# EAGLE library part SOCKET_PGA177 (library akita)
PGA177 15x15/2.54mm Kyocera QS-21115
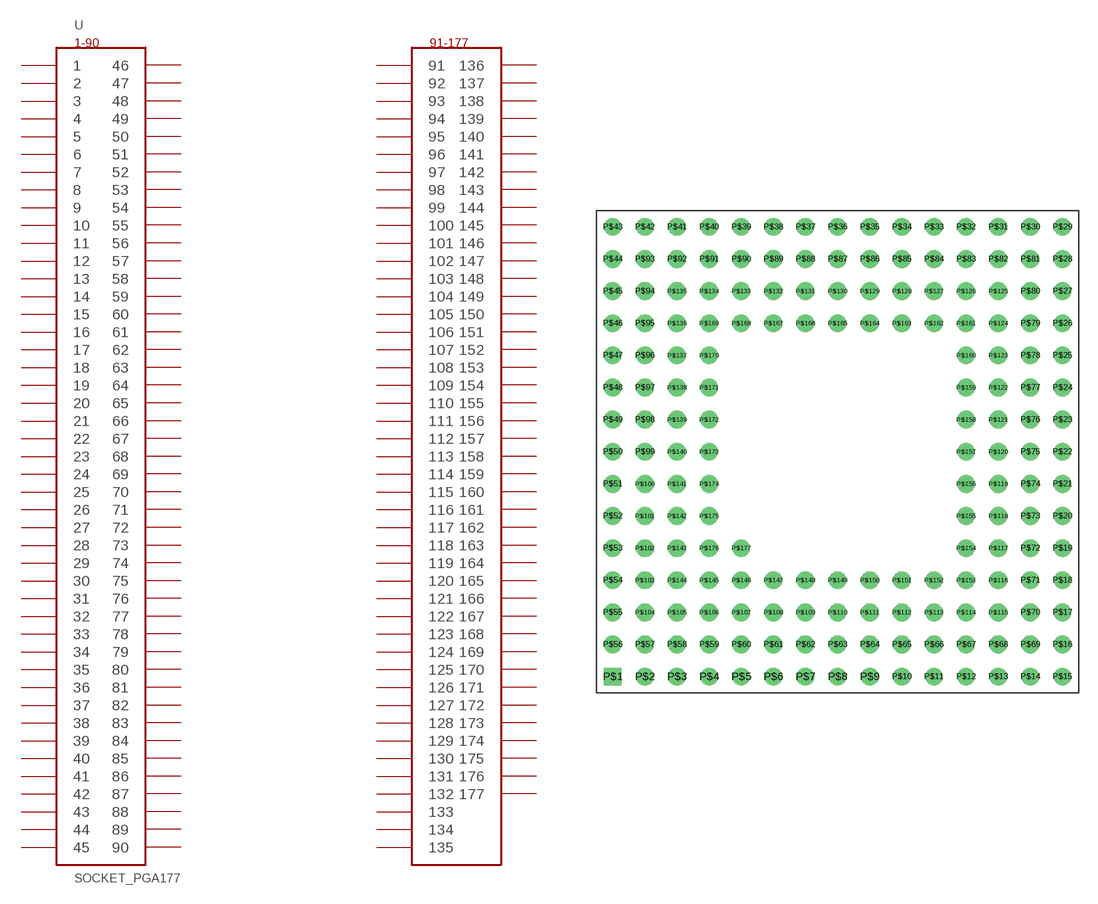
[diagram p141: symbol with the pads of SOCKET_PGA177; footprint SOCKET_PGA177]

Designator prefix U

## SOCKET_PGA177  [SOCKET_PGA177]
P$1  1
P$2  2
P$3  3
P$4  4
P$5  5
P$6  6
P$7  7
P$8  8
P$9  9
P$10  10
P$11  11
P$12  12
P$13  13
P$14  14
P$15  15
P$16  16
P$17  17
P$18  18
P$19  19
P$20  20
P$21  21
P$22  22
P$23  23
P$24  24
P$25  25
P$26  26
P$27  27
P$28  28
P$29  29
P$30  30
P$31  31
P$32  32
P$33  33
P$34  34
P$35  35
P$36  36
P$37  37
P$38  38
P$39  39
P$40  40
P$41  41
P$42  42
P$43  43
P$44  44
P$45  45
P$46  46
P$47  47
P$48  48
P$49  49
P$50  50
P$51  51
P$52  52
P$53  53
P$54  54
P$55  55
P$56  56
P$57  57
P$58  58
P$59  59
P$60  60
P$61  61
P$62  62
P$63  63
P$64  64
P$65  65
P$66  66
P$67  67
P$68  68
P$69  69
P$70  70
P$71  71
P$72  72
P$73  73
P$74  74
P$75  75
P$76  76
P$77  77
P$78  78
P$79  79
P$80  80
P$81  81
P$82  82
P$83  83
P$84  84
P$85  85
P$86  86
P$87  87
P$88  88
P$89  89
P$90  90
P$91  91
P$92  92
P$93  93
P$94  94
P$95  95
P$96  96
P$97  97
P$98  98
P$99  99
P$100  100
P$101  101
P$102  102
P$103  103
P$104  104
P$105  105
P$106  106
P$107  107
P$108  108
P$109  109
P$110  110
P$111  111
P$112  112
P$113  113
P$114  114
P$115  115
P$116  116
P$117  117
P$118  118
P$119  119
P$120  120
P$121  121
P$122  122
P$123  123
P$124  124
P$125  125
P$126  126
P$127  127
P$128  128
P$129  129
P$130  130
P$131  131
P$132  132
P$133  133
P$134  134
P$135  135
P$136  136
P$137  137
P$138  138
P$139  139
P$140  140
P$141  141
P$142  142
P$143  143
P$144  144
P$145  145
P$146  146
P$147  147
P$148  148
P$149  149
P$150  150
P$151  151
P$152  152
P$153  153
P$154  154
P$155  155
P$156  156
P$157  157
P$158  158
P$159  159
P$160  160
P$161  161
P$162  162
P$163  163
P$164  164
P$165  165
P$166  166
P$167  167
P$168  168
P$169  169
P$170  170
P$171  171
P$172  172
P$173  173
P$174  174
P$175  175
P$176  176
P$177  177

## Footprint SOCKET_PGA177 (pad centres in mm)
PGA177, 15x15/2.54mm
drill 0.9 square: P$1 -17.78,-17.78
drill 0.9: P$2 -15.24,-17.78; P$3 -12.7,-17.78; P$4 -10.16,-17.78; P$5 -7.62,-17.78; P$6 -5.08,-17.78; P$7 -2.54,-17.78; P$8 0,-17.78; P$9 2.54,-17.78; P$10 5.08,-17.78; P$11 7.62,-17.78; P$12 10.16,-17.78; P$13 12.7,-17.78; P$14 15.24,-17.78; P$15 17.78,-17.78; P$16 17.78,-15.24; P$17 17.78,-12.7; P$18 17.78,-10.16; P$19 17.78,-7.62; P$20 17.78,-5.08; P$21 17.78,-2.54; P$22 17.78,0; P$23 17.78,2.54; P$24 17.78,5.08; P$25 17.78,7.62; P$26 17.78,10.16; P$27 17.78,12.7; P$28 17.78,15.24; P$29 17.78,17.78; P$30 15.24,17.78; P$31 12.7,17.78; P$32 10.16,17.78; P$33 7.62,17.78; P$34 5.08,17.78; P$35 2.54,17.78; P$36 0,17.78; P$37 -2.54,17.78; P$38 -5.08,17.78; P$39 -7.62,17.78; P$40 -10.16,17.78; P$41 -12.7,17.78; P$42 -15.24,17.78; P$43 -17.78,17.78; P$44 -17.78,15.24; P$45 -17.78,12.7; P$46 -17.78,10.16; P$47 -17.78,7.62; P$48 -17.78,5.08; P$49 -17.78,2.54; P$50 -17.78,0; P$51 -17.78,-2.54; P$52 -17.78,-5.08; P$53 -17.78,-7.62; P$54 -17.78,-10.16; P$55 -17.78,-12.7; P$56 -17.78,-15.24; P$57 -15.24,-15.24; P$58 -12.7,-15.24; P$59 -10.16,-15.24; P$60 -7.62,-15.24; P$61 -5.08,-15.24; P$62 -2.54,-15.24; P$63 0,-15.24; P$64 2.54,-15.24; P$65 5.08,-15.24; P$66 7.62,-15.24; P$67 10.16,-15.24; P$68 12.7,-15.24; P$69 15.24,-15.24; P$70 15.24,-12.7; P$71 15.24,-10.16; P$72 15.24,-7.62; P$73 15.24,-5.08; P$74 15.24,-2.54; P$75 15.24,0; P$76 15.24,2.54; P$77 15.24,5.08; P$78 15.24,7.62; P$79 15.24,10.16; P$80 15.24,12.7; P$81 15.24,15.24; P$82 12.7,15.24; P$83 10.16,15.24; P$84 7.62,15.24; P$85 5.08,15.24; P$86 2.54,15.24; P$87 0,15.24; P$88 -2.54,15.24; P$89 -5.08,15.24; P$90 -7.62,15.24; P$91 -10.16,15.24; P$92 -12.7,15.24; P$93 -15.24,15.24; P$94 -15.24,12.7; P$95 -15.24,10.16; P$96 -15.24,7.62; P$97 -15.24,5.08; P$98 -15.24,2.54; P$99 -15.24,0; P$100 -15.24,-2.54; P$101 -15.24,-5.08; P$102 -15.24,-7.62; P$103 -15.24,-10.16; P$104 -15.24,-12.7; P$105 -12.7,-12.7; P$106 -10.16,-12.7; P$107 -7.62,-12.7; P$108 -5.08,-12.7; P$109 -2.54,-12.7; P$110 0,-12.7; P$111 2.54,-12.7; P$112 5.08,-12.7; P$113 7.62,-12.7; P$114 10.16,-12.7; P$115 12.7,-12.7; P$116 12.7,-10.16; P$117 12.7,-7.62; P$118 12.7,-5.08; P$119 12.7,-2.54; P$120 12.7,0; P$121 12.7,2.54; P$122 12.7,5.08; P$123 12.7,7.62; P$124 12.7,10.16; P$125 12.7,12.7; P$126 10.16,12.7; P$127 7.62,12.7; P$128 5.08,12.7; P$129 2.54,12.7; P$130 0,12.7; P$131 -2.54,12.7; P$132 -5.08,12.7; P$133 -7.62,12.7; P$134 -10.16,12.7; P$135 -12.7,12.7; P$136 -12.7,10.16; P$137 -12.7,7.62; P$138 -12.7,5.08; P$139 -12.7,2.54; P$140 -12.7,0; P$141 -12.7,-2.54; P$142 -12.7,-5.08; P$143 -12.7,-7.62; P$144 -12.7,-10.16; P$145 -10.16,-10.16; P$146 -7.62,-10.16; P$147 -5.08,-10.16; P$148 -2.54,-10.16; P$149 0,-10.16; P$150 2.54,-10.16; P$151 5.08,-10.16; P$152 7.62,-10.16; P$153 10.16,-10.16; P$154 10.16,-7.62; P$155 10.16,-5.08; P$156 10.16,-2.54; P$157 10.16,0; P$158 10.16,2.54; P$159 10.16,5.08; P$160 10.16,7.62; P$161 10.16,10.16; P$162 7.62,10.16; P$163 5.08,10.16; P$164 2.54,10.16; P$165 0,10.16; P$166 -2.54,10.16; P$167 -5.08,10.16; P$168 -7.62,10.16; P$169 -10.16,10.16; P$170 -10.16,7.62; P$171 -10.16,5.08; P$172 -10.16,2.54; P$173 -10.16,0; P$174 -10.16,-2.54; P$175 -10.16,-5.08; P$176 -10.16,-7.62; P$177 -7.62,-7.62